# Altium footprint library 10X SD CARD READER PCB.PcbLib: 35 footprints (part 3 of 3)
Each footprint in its own frame and in the unit in brackets; x right, y up, seen from the top. Pads: shape width x height; smd on the part's side, far side on the other; paste and mask are expansions set on the pad; w line width, h text height; cw(c..) or ccw(c..) is an arc to the next point about the centre after c.
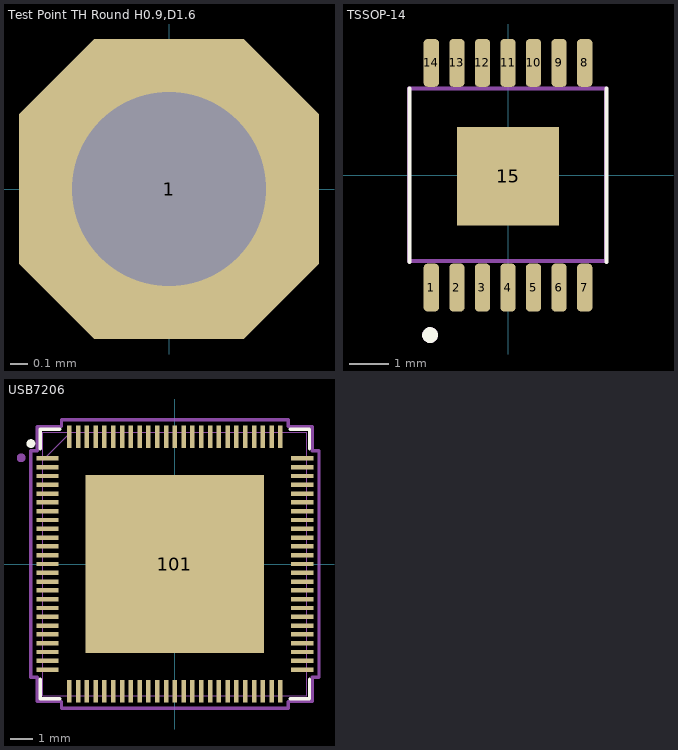
[diagram p2: the footprints below, top view; thin cyan lines are the x and y axes]

## Test Point TH Round H0.9,D1.6 [mm]
pads (1):
  oct 1.7x1.7 hole 1.1: 1(0,0)

## TSSOP-14 [mm]
height 0.89
pads (15):
  rrect50% 0.387x1.215 smd: 1(-1.95,-2.857) 2(-1.3,-2.857) 3(-0.65,-2.857) 4(0,-2.857) 5(0.65,-2.857) 6(1.3,-2.857) 7(1.95,-2.857) 8(1.95,2.857) 9(1.3,2.857) 10(0.65,2.857) 11(0,2.857) 12(-0.65,2.857) 13(-1.3,2.857) 14(-1.95,2.857)
  rect 2.6x2.5 smd: 15(0,-0.025)
Top Overlay:
  circle w0.2: c-1.981,-4.064 r0.1
  lines w0.102: -2.5,-2.2 -2.5,2.2 ; 2.5,-2.2 2.5,2.2
Mechanical 1:
  circle w0.2: c-1.981,-4.064 r0.1
  lines w0.102: -2.515,-2.184 -2.515,2.21 2.489,2.21 2.489,-2.184 -2.515,-2.184

## USB7206 [mil]
height 35.04
pads (101):
  rect 40x8 smd paste+0 mask+0: 1(-228,188.98) 2(-228,173.23) 3(-228,157.48) 4(-228,141.73) 5(-228,125.98) 6(-228,110.24) 7(-228,94.49) 8(-228,78.74) 9(-228,62.99) 10(-228,47.24) 11(-228,31.5) 12(-228,15.75) 13(-228,0) 14(-228,-15.75) 15(-228,-31.5) 16(-228,-47.24) 17(-228,-62.99) 18(-228,-78.74) 19(-228,-94.49) 20(-228,-110.24) 21(-228,-125.98) 22(-228,-141.73) 23(-228,-157.48) 24(-228,-173.23) 25(-228,-188.98) 51(228,-188.98) 52(228,-173.23) 53(228,-157.48) 54(228,-141.73) 55(228,-125.98) 56(228,-110.24) 57(228,-94.49) 58(228,-78.74) 59(228,-62.99) 60(228,-47.24) 61(228,-31.5) 62(228,-15.75) 63(228,0) 64(228,15.75) 65(228,31.5) 66(228,47.24) 67(228,62.99) 68(228,78.74) 69(228,94.49) 70(228,110.24) 71(228,125.98) 72(228,141.73) 73(228,157.48) 74(228,173.23) 75(228,188.98)
  rect 8x40 smd paste+0 mask+0: 26(-188.98,-228) 27(-173.23,-228) 28(-157.48,-228) 29(-141.73,-228) 30(-125.98,-228) 31(-110.24,-228) 32(-94.49,-228) 33(-78.74,-228) 34(-62.99,-228) 35(-47.24,-228) 36(-31.5,-228) 37(-15.75,-228) 38(0,-228) 39(15.75,-228) 40(31.5,-228) 41(47.24,-228) 42(62.99,-228) 43(78.74,-228) 44(94.49,-228) 45(110.24,-228) 46(125.98,-228) 47(141.73,-228) 48(157.48,-228) 49(173.23,-228) 50(188.98,-228) 76(188.98,228) 77(173.23,228) 78(157.48,228) 79(141.73,228) 80(125.98,228) 81(110.24,228) 82(94.49,228) 83(78.74,228) 84(62.99,228) 85(47.24,228) 86(31.5,228) 87(15.75,228) 88(0,228) 89(-15.75,228) 90(-31.5,228) 91(-47.24,228) 92(-62.99,228) 93(-78.74,228) 94(-94.49,228) 95(-110.24,228) 96(-125.98,228) 97(-141.73,228) 98(-157.48,228) 99(-173.23,228) 100(-188.98,228)
  rect 319x319 smd paste-159 mask+0: 101(0,0)
Top Overlay:
  circle w7.87: c-257.66,215.57 r3.94
  lines w6: -241,-206.08 -241,-241 -206.08,-241 ; -241,206.08 -241,241 -206.08,241 ; 206.08,-241 241,-241 241,-206.08 ; 206.08,241 241,241 241,206.08
Top Paste:
  region: -110.27,155.56 -155.56,155.56 -155.56,110.27 -110.27,110.27
  region: -110.27,102.4 -155.56,102.4 -155.56,57.1 -110.27,57.1
  region: -110.27,49.23 -155.56,49.23 -155.56,3.94 -110.27,3.94
  region: -110.27,-3.94 -155.56,-3.94 -155.56,-49.23 -110.27,-49.23
  region: -110.27,-57.1 -155.56,-57.1 -155.56,-102.4 -110.27,-102.4
  region: -110.27,-110.27 -155.56,-110.27 -155.56,-155.56 -110.27,-155.56
  region: -57.1,155.56 -102.4,155.56 -102.4,110.27 -57.1,110.27
  region: -57.1,102.4 -102.4,102.4 -102.4,57.1 -57.1,57.1
  region: -57.1,49.23 -102.4,49.23 -102.4,3.94 -57.1,3.94
  region: -57.1,-3.94 -102.4,-3.94 -102.4,-49.23 -57.1,-49.23
  region: -57.1,-57.1 -102.4,-57.1 -102.4,-102.4 -57.1,-102.4
  region: -57.1,-110.27 -102.4,-110.27 -102.4,-155.56 -57.1,-155.56
  region: -3.94,155.56 -49.23,155.56 -49.23,110.27 -3.94,110.27
  region: -3.94,102.4 -49.23,102.4 -49.23,57.1 -3.94,57.1
  region: -3.94,49.23 -49.23,49.23 -49.23,3.94 -3.94,3.94
  region: -3.94,-3.94 -49.23,-3.94 -49.23,-49.23 -3.94,-49.23
  region: -3.94,-57.1 -49.23,-57.1 -49.23,-102.4 -3.94,-102.4
  region: -3.94,-110.27 -49.23,-110.27 -49.23,-155.56 -3.94,-155.56
  region: 49.23,155.56 3.94,155.56 3.94,110.27 49.23,110.27
  region: 49.23,102.4 3.94,102.4 3.94,57.1 49.23,57.1
  region: 49.23,49.23 3.94,49.23 3.94,3.94 49.23,3.94
  region: 49.23,-3.94 3.94,-3.94 3.94,-49.23 49.23,-49.23
  region: 49.23,-57.1 3.94,-57.1 3.94,-102.4 49.23,-102.4
  region: 49.23,-110.27 3.94,-110.27 3.94,-155.56 49.23,-155.56
  region: 102.4,155.56 57.1,155.56 57.1,110.27 102.4,110.27
  region: 102.4,102.4 57.1,102.4 57.1,57.1 102.4,57.1
  region: 102.4,49.23 57.1,49.23 57.1,3.94 102.4,3.94
  region: 102.4,-3.94 57.1,-3.94 57.1,-49.23 102.4,-49.23
  region: 102.4,-57.1 57.1,-57.1 57.1,-102.4 102.4,-102.4
  region: 102.4,-110.27 57.1,-110.27 57.1,-155.56 102.4,-155.56
  region: 155.56,155.56 110.27,155.56 110.27,110.27 155.56,110.27
  region: 155.56,102.4 110.27,102.4 110.27,57.1 155.56,57.1
  region: 155.56,49.23 110.27,49.23 110.27,3.94 155.56,3.94
  region: 155.56,-3.94 110.27,-3.94 110.27,-49.23 155.56,-49.23
  region: 155.56,-57.1 110.27,-57.1 110.27,-102.4 155.56,-102.4
  region: 155.56,-110.27 110.27,-110.27 110.27,-155.56 155.56,-155.56
Mechanical 13:
  drawing of 206 lines, arcs and shapes, not listed
Mechanical 15:
  lines w6: -258,-202.98 -246,-202.98 -246,-246 -202.98,-246 -202.98,-258 202.98,-258 202.98,-246 246,-246 246,-202.98 258,-202.98 258,202.98 246,202.98 246,246 202.98,246 202.98,258 -202.98,258 -202.98,246 -246,246 -246,202.98 -258,202.98 -258,-202.98
3D body "VQFN100_KDX_MCH.step": height 35.12, standoff 0, extent -235.98,-235.98 235.98,235.98